# EAGLE library part BMP280 (library MOTO_LIB)
BAROMETER BMP280
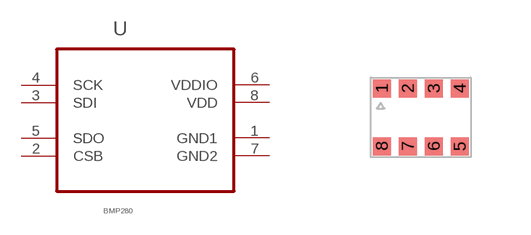
[diagram p5: symbol with the pads of LGA2X2_5PS0_65_P8; footprint LGA2X2_5PS0_65_P8]

Designator prefix U

## BMP280 (MPN: BMP280; SUPPLIER: BOSCH)  [LGA2X2_5PS0_65_P8]
1  GND1  pwr
2  CSB  in
3  SDI
4  SCK  in
5  SDO
6  VDDIO  pwr
7  GND2  pwr
8  VDD  pwr

## Footprint LGA2X2_5PS0_65_P8 (pad centres in mm)
smd 0.45 x 0.45: 1 -0.975,0.725; 2 -0.325,0.725; 3 0.325,0.725; 4 0.975,0.725; 5 0.975,-0.725; 6 0.325,-0.725; 7 -0.325,-0.725; 8 -0.975,-0.725